# Altium schematic symbol library RF.SchLib: 13 symbols
Pins are listed as number, name and electrical type; pins without a type are passive.

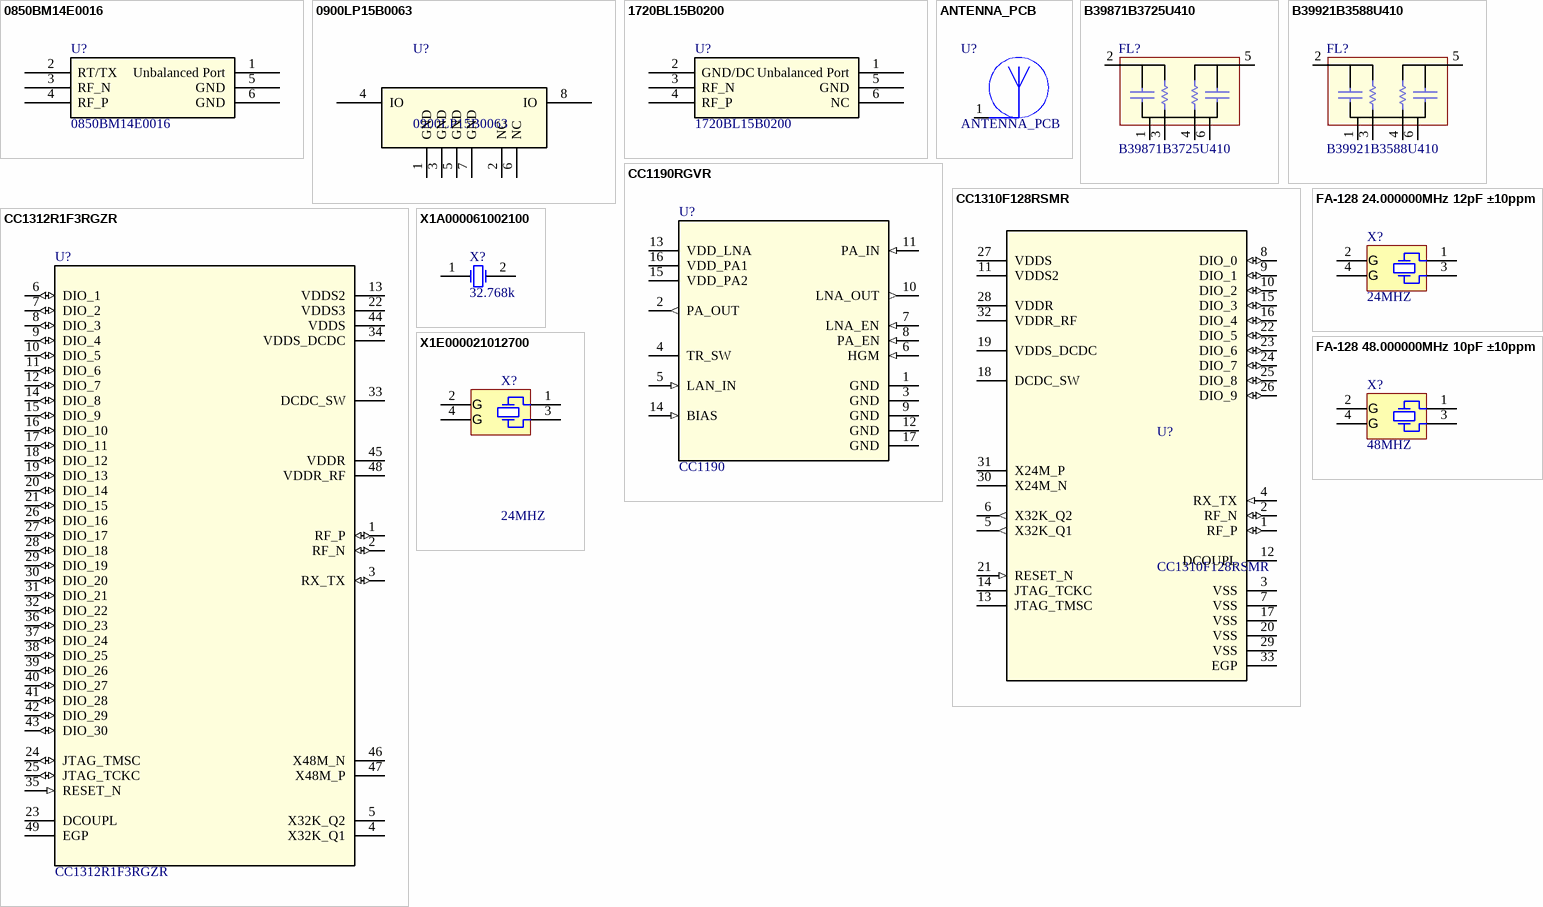
[diagram p0: symbols 0850BM14E0016 to X1E000021012700]

## 0850BM14E0016
designator U?
770 - 860 860 - 928MHz / -40°C to +85°C / Pmax 2W; Manufacturer: Johanson Technology; CompType: Balun; Code: 0850BM14E0016; DistributorCode: -; Package: 6P0603; A_Code: -; A_ComType: -; A_Manufacturer: -
footprint 6P0603
pins: 1 Unbalanced Port, 2 RT/TX, 3 RF_N, 4 RF_P, 5 GND, 6 GND

## 0900LP15B0063
designator U?
863 - 960MHz / -40 to +85°C / 3Fo Attenuation (2589-2784MHz) 50dB / 2Fo Attenuation (1726-1856MHz) 59dB /; Manufacturer: Johanson Technology; CompType: 低通; Code: 0900LP15B0063; DistributorCode: *; Package: 8P0805
footprint 8P0805 (Footprint not found)
pins: 1 GND, 2 NC, 3 GND, 4 IO, 5 GND, 6 NC, 7 GND, 8 IO

## 1720BL15B0200
designator U?
滤波器; Manufacturer: Johanson Technology; CompType: Balun; Code: 1720BL15B0200; DistributorCode: *; Package: 6P0805
footprint 6P0603
pins: 1 Unbalanced Port, 2 GND/DC, 3 RF_N, 4 RF_P, 5 GND, 6 NC

## ANTENNA_PCB
designator U?
Manufacturer: -; Code: -; DistributorCode: -; Package: P1X1
footprint P1X1
pins: 1

## B39871B3725U410
designator FL?
868.00 ... 870.00 MHz; Manufacturer: RF360; CompType: SWA filter; DistributorCode: Mouser 零件编号：871-B39871B3715U410; Code: B39871B3725U410; Package: DCC6C; A_Code: -; A_ComType: -; A_Manufacturer: -
footprint FIL_DCC6CN
pins: 1, 2, 3, 4, 5, 6

## B39921B3588U410
designator FL?
902.00 ... 928.00 MHz; Manufacturer: RF360; CompType: SWA filter; DistributorCode: Mouser 零件编号：871-B39921B3588U410; Code: B39921B3588U410; Package: DCC6C; A_Code: -; A_ComType: -; A_Manufacturer: -
footprint FIL_DCC6CN
pins: 1, 2, 3, 4, 5, 6

## CC1190RGVR
designator U?, comment CC1190
电源电压 ：2 V to 3.7 V / 最大输入10dBm / 27dBm输出 850~950MHz / PIN 5 dBm, POUT = 26.5 dBm, HGM = 1 时电流302mA; Manufacturer: TI(德州仪器); Code: CC1190RGVR; CompType: RFPA; Package: VQFN16; DistributorCode: C545234; A_Code: -; A_ComType: -; A_Manufacturer: -
footprint RGV0016A
footprint RGV0016A
pins: 1 GND (power), 2 PA_OUT (out), 3 GND (power), 4 TR_SW, 5 LAN_IN (in), 6 HGM (in), 7 LNA_EN (in), 8 PA_EN (in), 9 GND (power), 10 LNA_OUT (out), 11 PA_IN (in), 12 GND (power), 13 VDD_LNA (power), 14 BIAS (in), 15 VDD_PA2 (power), 16 VDD_PA1 (power), 17 GND (power)

## CC1310F128RSMR
designator U?
RF-MCU; Manufacturer: TI(德州仪器); CompType: MCU; Code: CC1310F128RSMR; Package: VQFN-32
footprint RSM0032B_NV
pins: 1 RF_P (io), 2 RF_N (io), 3 VSS (power), 4 RX_TX (in), 5 X32K_Q1 (out), 6 X32K_Q2 (out), 7 VSS (power), 8 DIO_0 (io), 9 DIO_1 (io), 10 DIO_2 (io), 11 VDDS2 (power), 12 DCOUPL, 13 JTAG_TMSC, 14 JTAG_TCKC, 15 DIO_3 (io), 16 DIO_4 (io), 17 VSS (power), 18 DCDC_SW (power), 19 VDDS_DCDC (power), 20 VSS (power), 21 RESET_N (in), 22 DIO_5 (io), 23 DIO_6 (io), 24 DIO_7 (io), 25 DIO_8 (io), 26 DIO_9 (io), 27 VDDS (power), 28 VDDR (power), 29 VSS (power), 30 X24M_N, 31 X24M_P, 32 VDDR_RF (power), 33 EGP (power)

## CC1312R1F3RGZR
designator U?
RF-MCU; Manufacturer: TI(德州仪器); CompType: MCU; DistributorCode: C543014; Package: VQFN-48; Code: CC1312R1F3RGZR; A_Code: -; A_ComType: -; A_Manufacturer: -
footprint RGZ0048A
pins: 1 RF_P (io), 2 RF_N (io), 3 RX_TX (io), 4 X32K_Q1, 5 X32K_Q2, 6 DIO_1 (io), 7 DIO_2 (io), 8 DIO_3 (io), 9 DIO_4 (io), 10 DIO_5 (io), 11 DIO_6 (io), 12 DIO_7 (io), 13 VDDS2 (power), 14 DIO_8 (io), 15 DIO_9 (io), 16 DIO_10 (io), 17 DIO_11 (io), 18 DIO_12 (io), 19 DIO_13 (io), 20 DIO_14 (io), 21 DIO_15 (io), 22 VDDS3 (power), 23 DCOUPL, 24 JTAG_TMSC (io), 25 JTAG_TCKC (io), 26 DIO_16 (io), 27 DIO_17 (io), 28 DIO_18 (io), 29 DIO_19 (io), 30 DIO_20 (io), 31 DIO_21 (io), 32 DIO_22 (io), 33 DCDC_SW (power), 34 VDDS_DCDC (power), 35 RESET_N (in), 36 DIO_23 (io), 37 DIO_24 (io), 38 DIO_25 (io), 39 DIO_26 (io), 40 DIO_27 (io), 41 DIO_28 (io), 42 DIO_29 (io), 43 DIO_30 (io), 44 VDDS (power), 45 VDDR (power), 46 X48M_N, 47 X48M_P, 48 VDDR_RF (power), 49 EGP (power)

## FA-128 24.000000MHz 12pF ±10ppm
designator X?, comment 24MHZ
商品目录 贴片晶体谐振器（无源） / 等效串联电阻（ESR） 60Ω / 晶振类型 无源贴片晶振 / 主频 24MHz / 频率公差 ±10ppm / 负载电容值 12pF / 工作温度 -40℃~85℃; Manufacturer: EPSON(爱普生); Code: Q22FA12800489; CompType: 晶振; DistributorCode: C255882; Package: SMD-2016; A_Code: -; A_ComType: -; A_Manufacturer: -
footprint SMD-3225
footprint SMD-2016
pins: 1, 2 GND (power), 3, 4 GND (power)
text: G

## FA-128 48.000000MHz 10pF ±10ppm
designator X?, comment 48MHZ
Q22FA12800150 / 等效串联电阻（ESR） 60Ω / 晶振类型 无源贴片晶振 / 主频 48MHz / 频率公差 ±10ppm / 负载电容值 10pF / 工作温度 -40℃ ~ +85℃; Manufacturer: EPSON(爱普生); Code: FA-128 48.000000MHz 10pF ±10ppm; CompType: 晶振; DistributorCode: C255900; Package: SMD-2016; A_Code: -; A_ComType: -; A_Manufacturer: -
footprint SMD-3225
footprint SMD-2016
pins: 1, 2 GND (power), 3, 4 GND (power)
text: G

## X1A000061002100
designator X?, comment 32.768k
X1A000061002100 / 等效串联电阻（ESR） 90kΩ / 晶振类型 无源贴片晶振 / 主频 32.768KHz / 频率公差 ±20ppm / 负载电容值 6pF / 工作温度 -40℃ ~ +85℃; Manufacturer: EPSON(爱普生); Code: FC-12M 32.768kHz 6pF ±20ppm; CompType: 晶振; DistributorCode: C255767; Package: SMD-2012; A_Code: -; A_ComType: -; A_Manufacturer: -
footprint SMD-2012
pins: 1 OSC1, 2 OSC2

## X1E000021012700
designator X?, comment 24MHZ
商品目录 贴片晶体谐振器（无源） / 等效串联电阻（ESR） 40Ω / 晶振类型 无源贴片晶振 / 主频 24MHz / 频率公差 ±10ppm / 负载电容值 9pF / 工作温度 -40℃~85℃; Manufacturer: EPSON(爱普生); Code: X1A000061002100; CompType: 晶振; DistributorCode: C89577; Package: SMD-3225
footprint SMD-3225
pins: 1, 2 GND (power), 3, 4 GND (power)
text: G